# EAGLE library part HT16K33 (library HT16k33)
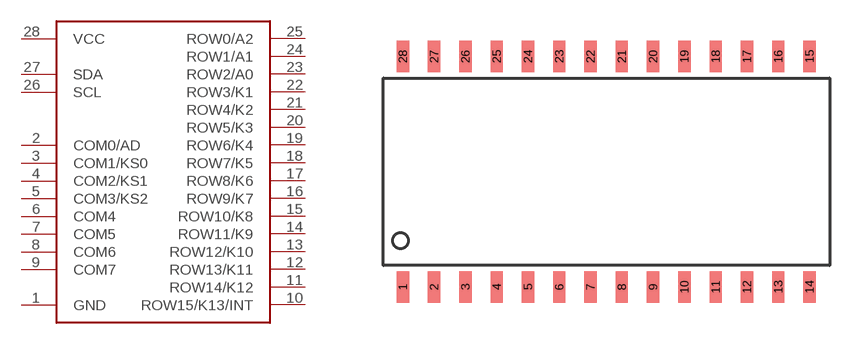
[diagram p0: symbol with the pads of SOP28; footprint SOP28]

Designator prefix -

## HT16K33  [SOP28]
1  GND  pwr
2  COM0/AD  out
3  COM1/KS0  out
4  COM2/KS1  out
5  COM3/KS2  out
6  COM4  out
7  COM5  out
8  COM6  out
9  COM7  out
10  ROW15/K13/INT
11  ROW14/K12
12  ROW13/K11
13  ROW12/K10
14  ROW11/K9
15  ROW10/K8
16  ROW9/K7
17  ROW8/K6
18  ROW7/K5
19  ROW6/K4
20  ROW5/K3
21  ROW4/K2
22  ROW3/K1
23  ROW2/A0
24  ROW1/A1
25  ROW0/A2
26  SCL  in
27  SDA
28  VCC  pwr

## Footprint SOP28 (pad centres in mm)
smd 0.5 x 1.27: 1 0,-4.685; 2 1.27,-4.685; 3 2.54,-4.685; 4 3.81,-4.685; 5 5.08,-4.685; 6 6.35,-4.685; 7 7.62,-4.685; 8 8.89,-4.685; 9 10.16,-4.685; 10 11.43,-4.685; 11 12.7,-4.685; 12 13.97,-4.685; 13 15.24,-4.685; 14 16.51,-4.685; 15 16.51,4.685; 16 15.24,4.685; 17 13.97,4.685; 18 12.7,4.685; 19 11.43,4.685; 20 10.16,4.685; 21 8.89,4.685; 22 7.62,4.685; 23 6.35,4.685; 24 5.08,4.685; 25 3.81,4.685; 26 2.54,4.685; 27 1.27,4.685; 28 0,4.685